# Altium footprint library PCB_Transistors.PcbLib: 1 footprints
Each footprint in its own frame and in the unit in brackets; x right, y up, seen from the top. Pads: shape width x height; smd on the part's side, far side on the other; paste and mask are expansions set on the pad; w line width, h text height; cw(c..) or ccw(c..) is an arc to the next point about the centre after c.
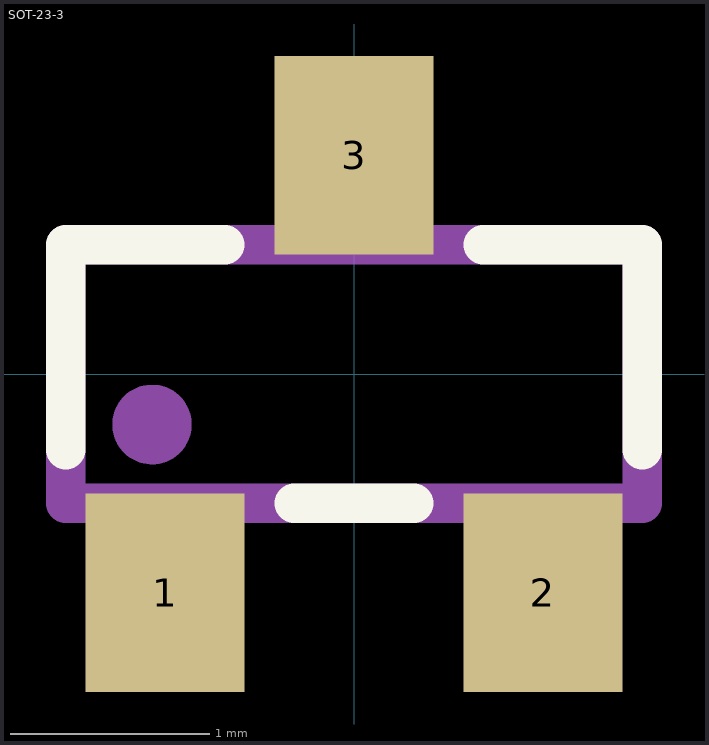
[diagram p0: the footprint, top view; thin cyan lines are the x and y axes]

## SOT-23-3 [mm]
pads (3):
  rect 0.8x1 smd: 1(-0.95,-1.1) 2(0.95,-1.1) 3(0,1.1)
Top Overlay:
  lines w0.2: -1.45,-0.381 -1.45,0.65 -0.65,0.65 ; -0.3,-0.65 0.3,-0.65 ; 0.65,0.65 1.45,0.65 1.45,-0.381
Top Assembly:
  circle w0.2: c-1.016,-0.254 r0.1
  rectangle: 0.696,-1.27 1.204,-0.635
  rectangle: -1.204,-1.27 -0.696,-0.635
  rectangle: -0.254,0.635 0.254,1.27
  lines w0.2: -1.45,-0.65 -1.45,0.65 1.45,0.65 1.45,-0.65 -1.45,-0.65
  text ".Designator" at -3.245,-0.233 h0.7
3D body "SOT-23-3.STEP": height 1.11, standoff 0.01, extent -1.45,-1.25 1.45,1.25